# Altium footprint library ECGAquisitionBoard.PcbLib: 9 footprints
Each footprint in its own frame and in the unit in brackets; x right, y up, seen from the top. Pads: shape width x height; smd on the part's side, far side on the other; paste and mask are expansions set on the pad; w line width, h text height; cw(c..) or ccw(c..) is an arc to the next point about the centre after c.
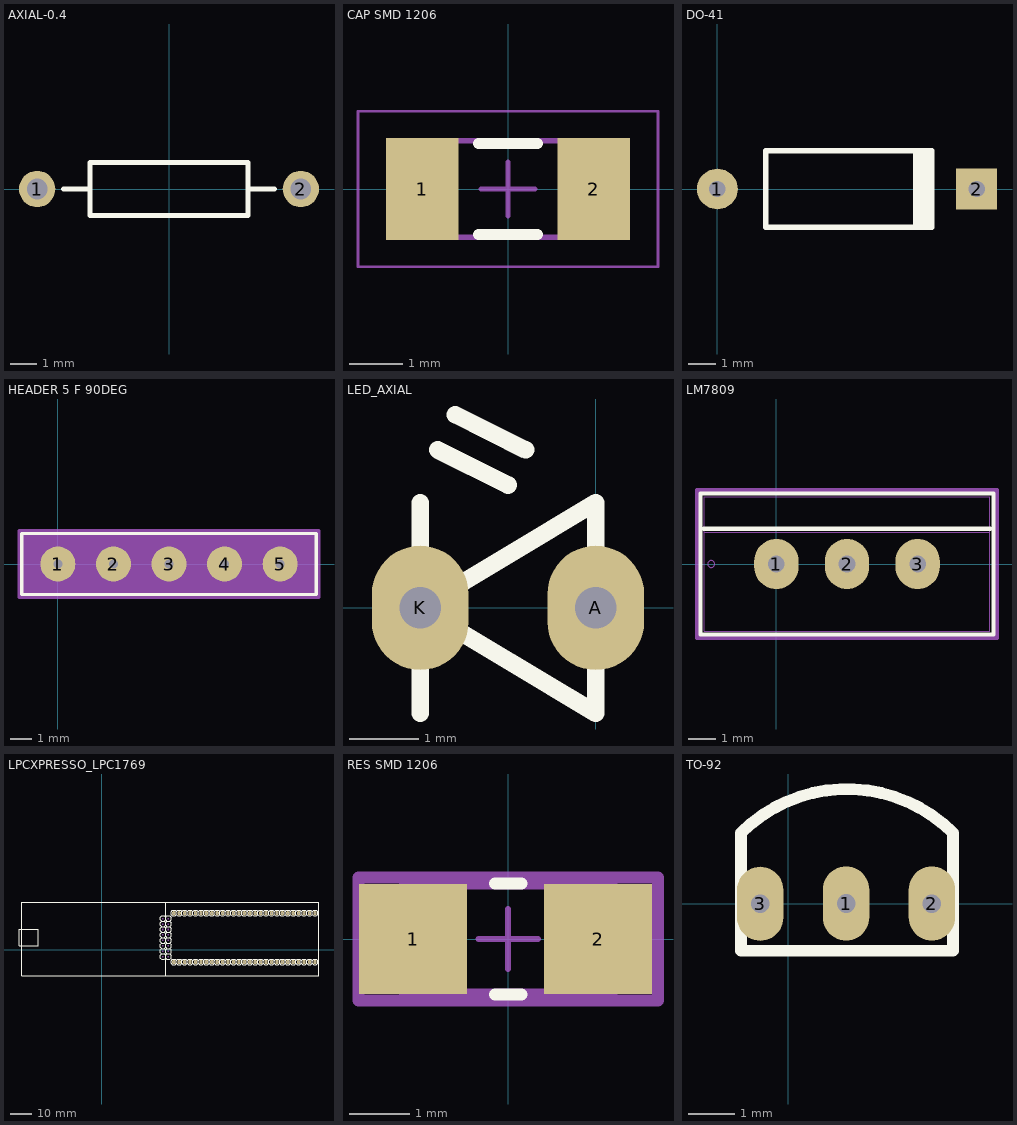
[diagram p0: the footprints below, top view; thin cyan lines are the x and y axes]

## AXIAL-0.4 [mm] "Axial Device, Thru-Hole; 2 Leads; 0.4 in Pin Spacing"
height 2.032
pads (2):
  round 1.4 hole 0.8: 1(-5.08,0) 2(5.08,0)
Top Overlay:
  lines w0.2: -4.064,0 -3.048,0 ; 3.048,0 4.064,0 ; -3.048,-1.016 3.048,-1.016 3.048,1.016 -3.048,1.016 -3.048,-1.016
3D body "User Library-Res40-Axial Short 0_25W-5_6R.STEP": height 2.41, standoff -2, extent -5.38,-1.2 5.38,1.2

## CAP SMD 1206 [mm] "Chip Capacitor, Body 3.2x1.6mm, Height 1.9mm, IPC Low Density"
height 1.9
pads (2):
  rect 1.35x1.9 smd: 1(-1.6,0) 2(1.6,0)
Top Overlay:
  lines w0.2: -0.55,-0.85 0.55,-0.85 ; -0.55,0.85 0.55,0.85
Mechanical 13:
  lines w0.1: -1.7,-0.9 -1.7,0.9 1.7,0.9 1.7,-0.9 -1.7,-0.9
Mechanical 15:
  lines w0.05: -2.8,-1.45 -2.8,1.45 2.8,1.45 2.8,-1.45 -2.8,-1.45
  lines w0.1: -0.5,0 0.5,0 ; 0,-0.5 0,0.5
3D body: height 1.9, standoff 0, extent -1.2,-0.9 1.2,0.9
3D body: height 1.9, standoff 0, extent -1.7,-0.9 -1.2,0.9
3D body: height 1.9, standoff 0, extent 1.2,-0.9 1.7,0.9

## DO-41 [mm]
pads (2):
  round 1.5 hole 0.6: 1(0,0)
  rect 1.5x1.5 hole 0.6: 2(9.525,0)
Top Overlay:
  rectangle: 7.18,-1.4 7.98,1.4
  lines w0.2: 7.88,-1.4 1.778,-1.4 1.778,1.4 7.88,1.4
3D body "User Library-DO-41_375mil.STEP": height 2.83, standoff -2.52, extent -0.43,-1.355 9.955,1.345

## HEADER 5 F 90DEG [mm]
pads (5):
  round 1.6 hole 0.4 paste-0.762 mask+0: 1(0,0) 2(2.54,0) 3(5.08,0) 4(7.62,0) 5(10.16,0)
Top Overlay:
  lines w0.152: -1.651,-1.397 -1.651,1.397 11.811,1.397 11.811,-1.397 -1.651,-1.397
Mechanical 13:
  lines w0.025: -1.524,-1.27 -1.524,1.27 11.684,1.27 11.684,-1.27 -1.524,-1.27
Mechanical 15:
  region: 11.938,1.524 -1.778,1.524 -1.778,-1.524 11.938,-1.524
  lines w0.152: -1.778,-1.524 11.938,-1.524 11.938,1.524 -1.778,1.524 -1.778,-1.524
3D body "PPPC051LGBN-RC.STEP": height 2.54, standoff -3.15, extent -1.504,-10.163 11.696,0.137

## LED_AXIAL [mm]
pads (2):
  oval 1.4x1.8 hole 0.6: A(0,0) K(-2.54,0)
Top Overlay:
  lines w0.254: -2.54,-1.524 -2.54,1.524 ; -2.286,2.286 -1.27,1.778 ; -2.032,2.794 -1.016,2.286 ; -2.54,0 0,-1.524 0,1.524 -2.54,0
3D body "SW3DPS-5MM LED RED-DEFAULT.STEP": height 10.6, standoff -3, extent -3.82,-2.55 1.28,2.55

## LM7809 [mm]
pads (3):
  oval 1.6x1.8 hole 0.6 paste-2539.97 mask+0: 1(0,0) 2(2.54,0) 3(5.08,0)
Top Overlay:
  lines w0.152: -2.603,1.27 7.683,1.27 ; -2.73,-2.54 7.81,-2.54 7.81,2.54 -2.73,2.54 -2.73,-2.54
Mechanical 13:
  circle w0: c-2.349,0 r0.127
  lines w0.025: -2.603,1.143 7.683,1.143 ; -2.603,-2.413 7.683,-2.413 7.683,2.413 -2.603,2.413 -2.603,-2.413
  text "TAB" at 2.064,1.46 h0.64
Mechanical 15:
  lines w0.152: -2.857,-2.667 -2.857,2.667 7.938,2.667 7.938,-2.667 -2.857,-2.667
3D body "TO-220AB_ONS.step": height 16.89, standoff -6.1, extent -2.604,-2.413 7.684,2.413

## LPCXPRESSO_LPC1769 [mm]
pads (54):
  oval 1.5x2 hole 0.6: 1(33.655,-5.715) 2(36.195,-5.715) 3(38.735,-5.715) 4(41.275,-5.715) 5(43.815,-5.715) 6(46.355,-5.715) 7(48.895,-5.715) 8(51.435,-5.715) 9(53.975,-5.715) 10(56.515,-5.715) 11(59.055,-5.715) 12(61.595,-5.715) 13(64.135,-5.715) 14(66.675,-5.715) 15(69.215,-5.715) 16(71.755,-5.715) 17(74.295,-5.715) 18(76.835,-5.715) 19(79.375,-5.715) 20(81.915,-5.715) 21(84.455,-5.715) 22(86.995,-5.715) 23(89.535,-5.715) 24(92.075,-5.715) 25(94.615,-5.715) 26(97.155,-5.715) 27(99.695,-5.715) 28(33.655,17.145) 29(36.195,17.145) 30(38.735,17.145) 31(41.275,17.145) 32(43.815,17.145) 33(46.355,17.145) 34(48.895,17.145) 35(51.435,17.145) 36(53.975,17.145) 37(56.515,17.145) 38(59.055,17.145) 39(61.595,17.145) 40(64.135,17.145) 41(66.675,17.145) 42(69.215,17.145) 43(71.755,17.145) 44(74.295,17.145) 45(76.835,17.145) 46(79.375,17.145) 47(81.915,17.145) 48(84.455,17.145) 49(86.995,17.145) 50(89.535,17.145) 51(92.075,17.145) 52(94.615,17.145) 53(97.155,17.145) 54(99.695,17.145)
Top Overlay:
  drawing of 502 lines, arcs and shapes, not listed
Mechanical 13:
  drawing of 70 lines, arcs and shapes, not listed
  text "USB" at -35.56,5.08 h1.78
  text "GND" at 26.289,-2.286 h1.78
  text "EXT-5V" at 26.289,0.254 h1.78
  text "RESET" at 26.289,2.794 h1.78
  text "NC/TDI" at 26.289,5.334 h1.78
  text "SWO/TDO" at 26.289,7.874 h1.78
  text "SWCLK/TCLK" at 26.289,10.414 h1.78
  text "SWDIO/TMS" at 26.289,12.954 h1.78
  text "3.3V" at 26.289,15.494 h1.78
  text "TM" at -6.35,5.715 h1.02
  text "LPC target side" at 45.72,5.08 h1.78
  text "LPC-Link   side" at -16.51,4.445 h1.78

## RES SMD 1206 [mm]
pads (2):
  rect 1.8x1.84 smd paste+0 mask+0: 1(-1.588,-0.001) 2(1.5,0)
Top Overlay:
  lines w0.2: -0.225,-0.925 0.225,-0.925 ; -0.225,0.925 0.225,0.925
Top 3D Body:
  lines w0.2: -1.725,-0.925 1.725,-0.925 1.725,0.925 -1.725,0.925 -1.725,-0.925
Top Courtyard:
  lines w0.2: -2.5,-1.025 -2.5,1.025 2.5,1.025 2.5,-1.025 -2.5,-1.025
Top Assembly:
  lines w0.2: -2.5,-1.025 2.5,-1.025 2.5,1.025 -2.5,1.025 -2.5,-1.025
Top Component Center:
  lines w0.1: -0.5,0 0.5,0 ; 0,-0.5 0,0.5
3D body "Res_Stackpole_Electronics_HCJ1206ZT0R00_eec.STEP": height 0.25, standoff 0, extent -2.5,-1.025 2.5,1.025

## TO-92 [mm]
pads (3):
  oval 1x1.6 hole 0.4: 1(1.251,0.003) 2(3.1,0.002) 3(-0.6,-0.003)
Top Overlay:
  lines w0.254: -1.016,-1.016 3.556,-1.016 3.556,1.524 ccw(c1.27,-0.762) -1.016,1.524 -1.016,-1.016
3D body "User Library-TO-92_Str.STEP": height 10, standoff -3, extent -1.343,-1.59 3.883,2.613